# Altium footprint library National Semiconductor Amplifier.PcbLib: 108 footprints (part 1 of 7)
Each footprint in its own frame and in the unit in brackets; x right, y up, seen from the top. Pads: shape width x height; smd on the part's side, far side on the other; paste and mask are expansions set on the pad; w line width, h text height; cw(c..) or ccw(c..) is an arc to the next point about the centre after c.
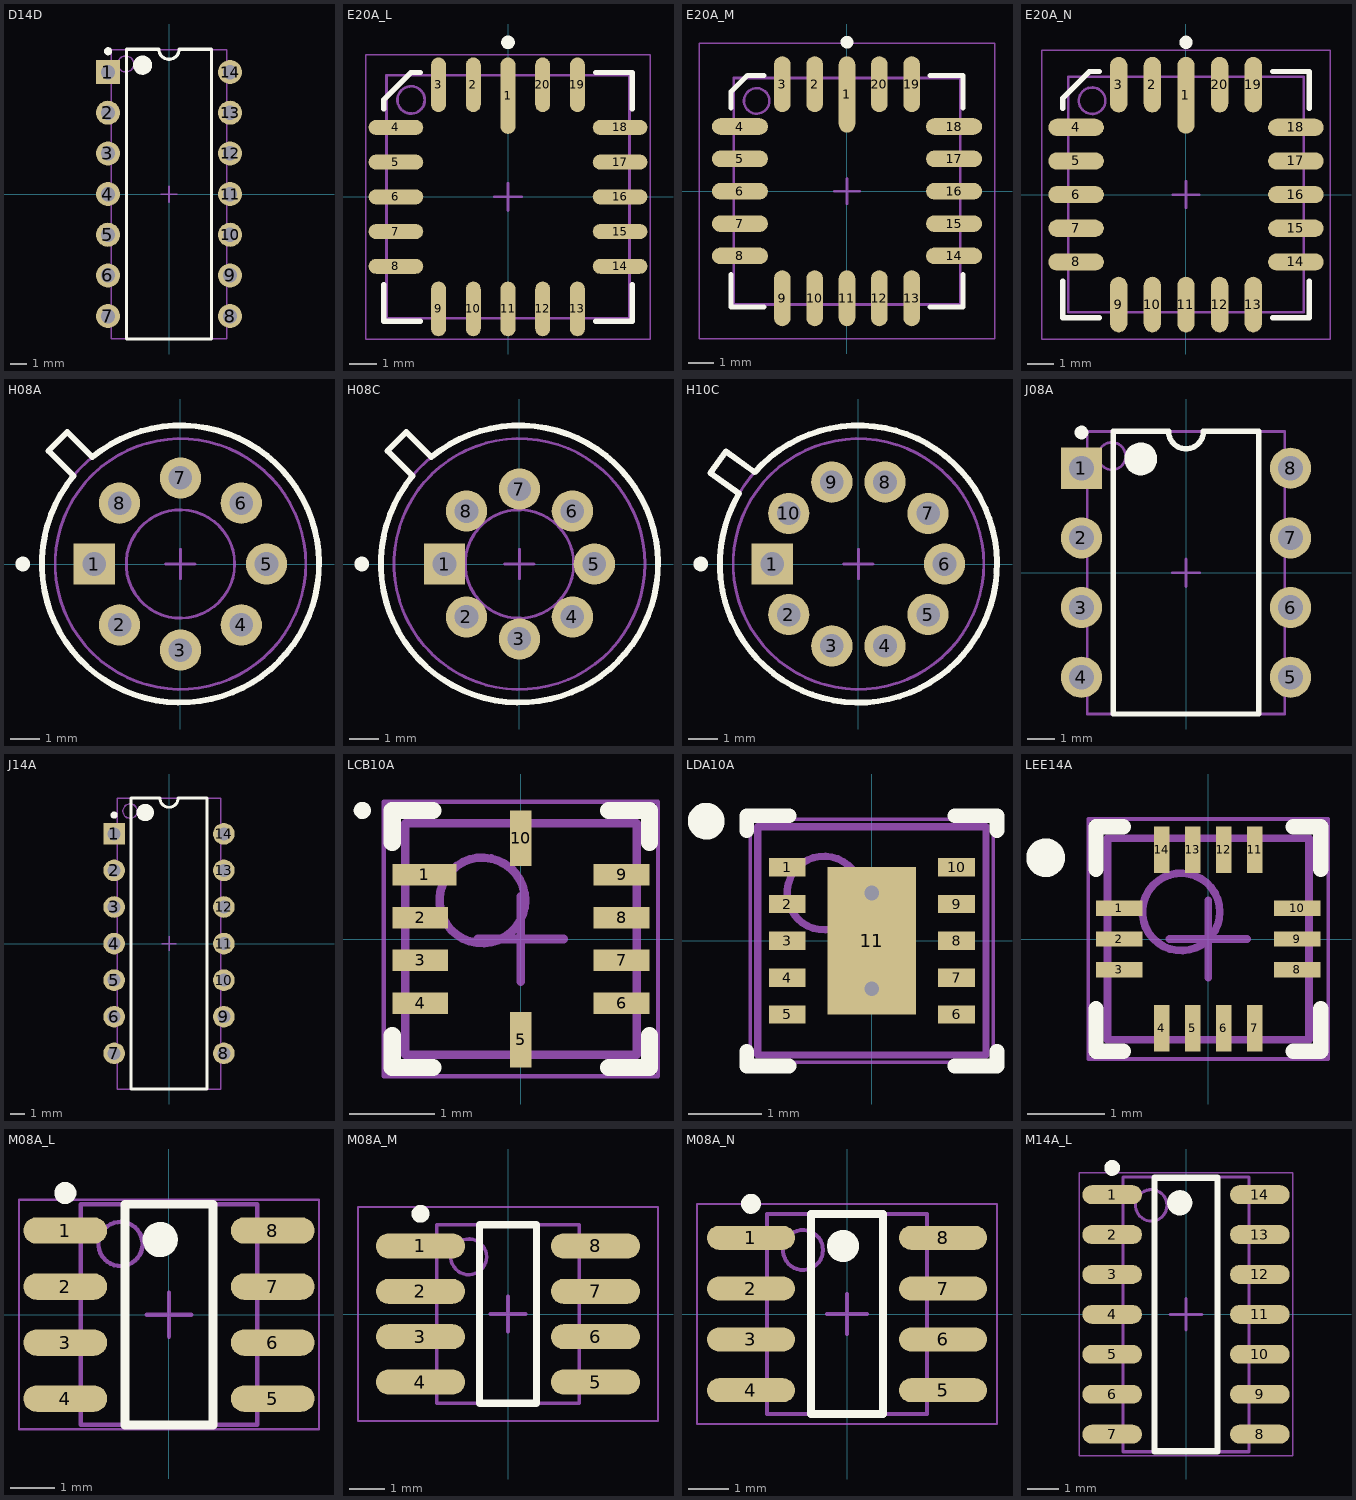
[diagram p0: the footprints below, top view; thin cyan lines are the x and y axes]

## D14D [mm] "DIP, 14-Pin, Row Spacing 7.62 mm, Pitch 2.54 mm"
height 4.58
pads (14):
  rect 1.5x1.5 hole 0.9: 1(-3.81,7.62)
  round 1.5 hole 0.9: 2(-3.81,5.08) 3(-3.81,2.54) 4(-3.81,0) 5(-3.81,-2.54) 6(-3.81,-5.08) 7(-3.81,-7.62) 8(3.81,-7.62) 9(3.81,-5.08) 10(3.81,-2.54) 11(3.81,0) 12(3.81,2.54) 13(3.81,5.08) 14(3.81,7.62)
Top Overlay:
  circle w0.6: c-1.65,8.05 r0.3
  circle w0.25: c-3.81,8.92 r0.125
  lines w0.2: -2.65,-9.05 2.65,-9.05 2.65,9.05 0.635,9.05 cw(c0,9.05) -0.635,9.05 -2.65,9.05 -2.65,-9.05
Mechanical 13:
  circle w0.1: c-2.7,8.125 r0.5
  lines w0.1: -3.6,-9.025 3.6,-9.025 3.6,9.025 -3.6,9.025 -3.6,-9.025
Mechanical 15:
  lines w0.1: -0.5,0 0.5,0 ; 0,-0.5 0,0.5
3D body: height 4.58, standoff 0, extent -3.6,-9.025 3.6,9.025

## E20A_L [mm] "Leadless Chip Carrier, 20-Leads, Body 8.9x8.9mm, Pitch 1.27mm, IPC High Density"
height 1.91
pads (20):
  oval 0.55x2.8 smd: 1(0,3.7)
  oval 0.55x2 smd: 2(-1.27,4.1) 3(-2.54,4.1) 9(-2.54,-4.1) 10(-1.27,-4.1) 11(0,-4.1) 12(1.27,-4.1) 13(2.54,-4.1) 19(2.54,4.1) 20(1.27,4.1)
  oval 2x0.55 smd: 4(-4.1,2.54) 5(-4.1,1.27) 6(-4.1,0) 7(-4.1,-1.27) 8(-4.1,-2.54) 14(4.1,-2.54) 15(4.1,-1.27) 16(4.1,0) 17(4.1,1.27) 18(4.1,2.54)
Top Overlay:
  circle w0.25: c0,5.65 r0.125
  lines w0.2: -4.55,-3.215 -4.55,-4.55 -3.215,-4.55 ; -4.55,3.215 -4.55,3.55 -3.55,4.55 -3.215,4.55 ; 3.215,-4.55 4.55,-4.55 4.55,-3.215 ; 3.215,4.55 4.55,4.55 4.55,3.215
Mechanical 13:
  circle w0.1: c-3.545,3.545 r0.5
  lines w0.1: -4.445,-4.445 4.445,-4.445 4.445,4.445 -4.445,4.445 -4.445,-4.445
Mechanical 15:
  lines w0.05: -5.2,-5.2 5.2,-5.2 5.2,5.2 -5.2,5.2 -5.2,-5.2
  lines w0.1: -0.5,0 0.5,0 ; 0,-0.5 0,0.5
3D body: height 1.91, standoff 0, extent -4.445,-4.445 4.445,4.445

## E20A_M [mm] "Leadless Chip Carrier, 20-Leads, Body 8.9x8.9mm, Pitch 1.27mm, IPC Low Density"
height 1.91
pads (20):
  oval 0.65x3 smd: 1(0,3.8)
  oval 0.65x2.2 smd: 2(-1.27,4.2) 3(-2.54,4.2) 9(-2.54,-4.2) 10(-1.27,-4.2) 11(0,-4.2) 12(1.27,-4.2) 13(2.54,-4.2) 19(2.54,4.2) 20(1.27,4.2)
  oval 2.2x0.65 smd: 4(-4.2,2.54) 5(-4.2,1.27) 6(-4.2,0) 7(-4.2,-1.27) 8(-4.2,-2.54) 14(4.2,-2.54) 15(4.2,-1.27) 16(4.2,0) 17(4.2,1.27) 18(4.2,2.54)
Top Overlay:
  circle w0.25: c0,5.85 r0.125
  lines w0.2: -4.55,-3.265 -4.55,-4.55 -3.265,-4.55 ; -4.55,3.265 -4.55,3.908 -3.908,4.55 -3.265,4.55 ; 3.265,-4.55 4.55,-4.55 4.55,-3.265 ; 3.265,4.55 4.55,4.55 4.55,3.265
Mechanical 13:
  circle w0.1: c-3.545,3.545 r0.5
  lines w0.1: -4.445,-4.445 -4.445,4.445 4.445,4.445 4.445,-4.445 -4.445,-4.445
Mechanical 15:
  lines w0.05: -5.8,-5.8 -5.8,5.8 5.8,5.8 5.8,-5.8 -5.8,-5.8
  lines w0.1: -0.5,0 0.5,0 ; 0,-0.5 0,0.5
3D body: height 1.91, standoff 0, extent -4.445,-4.445 4.445,4.445

## E20A_N [mm] "Leadless Chip Carrier, 20-Leads, Body 8.9x8.9mm, Pitch 1.27mm, IPC Medium Density"
height 1.91
pads (20):
  oval 0.65x2.9 smd: 1(0,3.75)
  oval 0.65x2.1 smd: 2(-1.27,4.15) 3(-2.54,4.15) 9(-2.54,-4.15) 10(-1.27,-4.15) 11(0,-4.15) 12(1.27,-4.15) 13(2.54,-4.15) 19(2.54,4.15) 20(1.27,4.15)
  oval 2.1x0.65 smd: 4(-4.15,2.54) 5(-4.15,1.27) 6(-4.15,0) 7(-4.15,-1.27) 8(-4.15,-2.54) 14(4.15,-2.54) 15(4.15,-1.27) 16(4.15,0) 17(4.15,1.27) 18(4.15,2.54)
Top Overlay:
  circle w0.25: c0,5.75 r0.125
  lines w0.2: -4.65,-3.265 -4.65,-4.65 -3.265,-4.65 ; -4.65,3.265 -4.65,3.65 -3.65,4.65 -3.265,4.65 ; 3.265,-4.65 4.65,-4.65 4.65,-3.265 ; 3.265,4.65 4.65,4.65 4.65,3.265
Mechanical 13:
  circle w0.1: c-3.545,3.545 r0.5
  lines w0.1: -4.445,-4.445 -4.445,4.445 4.445,4.445 4.445,-4.445 -4.445,-4.445
Mechanical 15:
  lines w0.05: -5.45,-5.45 -5.45,5.45 5.45,5.45 5.45,-5.45 -5.45,-5.45
  lines w0.1: -0.5,0 0.5,0 ; 0,-0.5 0,0.5
3D body: height 1.91, standoff 0, extent -4.445,-4.445 4.445,4.445

## H08A [mm] "Can; 8 Leads; Pin Circle Dia. 5.84 mm; Lead Dia. 0.48 mm (max)"
height 5.08
pads (8):
  rect 1.4x1.4 hole 0.8: 1(-2.92,0)
  round 1.4 hole 0.8: 2(-2.065,-2.065) 3(0,-2.92) 4(2.065,-2.065) 5(2.92,0) 6(2.065,2.065) 7(0,2.92) 8(-2.065,2.065)
Top Overlay:
  circle w0.25: c-5.35,0 r0.125
  lines w0.2: -4.475,3.838 -3.838,4.475 -2.99,3.626 cw(c0,0) -3.626,2.99 -4.475,3.838
Mechanical 13:
  circle w0.1: c0,0 r4.7
  circle w0.1: c0,0 r4.25
  circle w0.1: c0,0 r1.84
Mechanical 15:
  lines w0.1: -0.5,0 0.5,0 -0.5,0 ; 0,-0.5 0,0.5 0,-0.5
3D body: height 5.08, standoff 1.4, extent -4.249,-4.249 4.249,4.249
3D body: height 1.4, standoff 0.38, extent -4.699,-4.699 4.699,4.699
3D body: height 0.38, standoff 0, extent -1.839,-1.839 1.839,1.839

## H08C [mm] "Can; 8 Leads; Pin Circle Dia. 5.08 mm; Lead Dia. 0.48 mm (max)"
height 5.56
pads (8):
  rect 1.4x1.4 hole 0.8: 1(-2.54,0)
  round 1.4 hole 0.8: 2(-1.796,-1.796) 3(0,-2.54) 4(1.796,-1.796) 5(2.54,0) 6(1.796,1.796) 7(0,2.54) 8(-1.796,1.796)
Top Overlay:
  circle w0.25: c-5.35,0 r0.125
  lines w0.2: -4.475,3.838 -3.838,4.475 -2.99,3.626 cw(c0,0) -3.626,2.99 -4.475,3.838
Mechanical 13:
  circle w0.1: c0,0 r4.7
  circle w0.1: c0,0 r4.255
  circle w0.1: c0,0 r1.84
Mechanical 15:
  lines w0.1: -0.5,0 0.5,0 ; 0,-0.5 0,0.5
3D body: height 0.38, standoff 0, extent -1.839,-1.839 1.839,1.839
3D body: height 1.91, standoff 0.38, extent -4.699,-4.699 4.699,4.699
3D body: height 5.56, standoff 1.91, extent -4.254,-4.254 4.254,4.254

## H10C [mm] "Can; 10 Leads; Pin Circle Dia. 5.84 mm; Lead Dia. 0.48 mm (max)"
height 4.7
pads (10):
  rect 1.4x1.4 hole 0.8: 1(-2.92,0)
  round 1.4 hole 0.8: 2(-2.362,-1.716) 3(-0.902,-2.777) 4(0.902,-2.777) 5(2.362,-1.716) 6(2.92,0) 7(2.362,1.716) 8(0.902,2.777) 9(-0.902,2.777) 10(-2.362,1.716)
Top Overlay:
  circle w0.25: c-5.35,0 r0.125
  lines w0.2: -4.049,2.386 -5.02,3.091 -4.491,3.819 -3.52,3.114 cw(c0,0) -4.049,2.386
Mechanical 13:
  circle w0.1: c0,0 r4.7
  circle w0.1: c0,0 r4.25
Mechanical 15:
  lines w0.1: -0.5,0 0.5,0 ; 0,-0.5 0,0.5
3D body: height 4.7, standoff 0.89, extent -4.249,-4.249 4.25,4.249
3D body: height 0.89, standoff 0, extent -4.699,-4.699 4.699,4.699

## J08A [mm] "DIP, 8-Pin, Row Spacing 7.62 mm, Pitch 2.54 mm"
height 5.08
pads (8):
  rect 1.5x1.5 hole 0.9: 1(-3.81,3.81)
  round 1.5 hole 0.9: 2(-3.81,1.27) 3(-3.81,-1.27) 4(-3.81,-3.81) 5(3.81,-3.81) 6(3.81,-1.27) 7(3.81,1.27) 8(3.81,3.81)
Top Overlay:
  circle w0.6: c-1.65,4.15 r0.3
  circle w0.25: c-3.81,5.11 r0.125
  lines w0.2: -2.65,-5.15 2.65,-5.15 2.65,5.15 0.635,5.15 cw(c0,5.15) -0.635,5.15 -2.65,5.15 -2.65,-5.15
Mechanical 13:
  circle w0.1: c-2.7,4.25 r0.5
  lines w0.1: -3.6,-5.15 3.6,-5.15 3.6,5.15 -3.6,5.15 -3.6,-5.15
Mechanical 15:
  lines w0.1: -0.5,0 0.5,0 ; 0,-0.5 0,0.5
3D body: height 5.08, standoff 0, extent -3.6,-5.15 3.6,5.15

## J14A [mm] "DIP, 14-Pin, Row Spacing 7.62 mm, Pitch 2.54 mm"
height 5.08
pads (14):
  rect 1.5x1.5 hole 0.9: 1(-3.81,7.62)
  round 1.5 hole 0.9: 2(-3.81,5.08) 3(-3.81,2.54) 4(-3.81,0) 5(-3.81,-2.54) 6(-3.81,-5.08) 7(-3.81,-7.62) 8(3.81,-7.62) 9(3.81,-5.08) 10(3.81,-2.54) 11(3.81,0) 12(3.81,2.54) 13(3.81,5.08) 14(3.81,7.62)
Top Overlay:
  circle w0.6: c-1.65,9.1 r0.3
  circle w0.25: c-3.81,8.92 r0.125
  lines w0.2: -2.65,-10.1 2.65,-10.1 2.65,10.1 0.635,10.1 cw(c0,10.1) -0.635,10.1 -2.65,10.1 -2.65,-10.1
Mechanical 13:
  circle w0.1: c-2.7,9.2 r0.5
  lines w0.1: -3.6,-10.1 3.6,-10.1 3.6,10.1 -3.6,10.1 -3.6,-10.1
Mechanical 15:
  lines w0.1: -0.5,0 0.5,0 ; 0,-0.5 0,0.5
3D body: height 5.08, standoff 0, extent -3.6,-10.1 3.6,10.1

## LCB10A [mm] "SON, 10-Leads, Body 2.6x2.6mm, Pitch 0.5mm, NSC Recommended"
height 0.6
pads (10):
  rect 0.75x0.25 smd paste-0.125 mask+0.051: 1(-1.125,0.75)
  rect 0.65x0.25 smd paste-0.125 mask+0.051: 2(-1.175,0.25) 3(-1.175,-0.25) 4(-1.175,-0.75) 6(1.175,-0.75) 7(1.175,-0.25) 8(1.175,0.25) 9(1.175,0.75)
  rect 0.25x0.65 smd paste-0.125 mask+0.051: 5(0,-1.175) 10(0,1.175)
Top Overlay:
  circle w0.1: c-1.85,1.5 r0.05
  lines w0.2: -1.5,-1.125 -1.5,-1.5 -1.025,-1.5 ; -1.5,1.125 -1.5,1.5 -1.025,1.5 ; 1.025,-1.5 1.5,-1.5 1.5,-1.125 ; 1.025,1.5 1.5,1.5 1.5,1.125
Top Paste:
  rectangle: -0.125,0.95 0.125,1.7
  region: 0.125,-0.95 -0.125,-0.95 -0.125,-1.7 0.125,-1.7
  region: 1.7,0.625 1.7,0.875 0.95,0.875 0.95,0.625
  region: 1.7,0.125 1.7,0.375 0.95,0.375 0.95,0.125
  region: 1.7,-0.375 1.7,-0.125 0.95,-0.125 0.95,-0.375
  region: 1.7,-0.875 1.7,-0.625 0.95,-0.625 0.95,-0.875
  region: -0.95,-0.875 -0.95,-0.625 -1.7,-0.625 -1.7,-0.875
  region: -0.95,-0.375 -0.95,-0.125 -1.7,-0.125 -1.7,-0.375
  region: -0.95,0.125 -0.95,0.375 -1.7,0.375 -1.7,0.125
  region: -0.85,0.625 -0.85,0.875 -1.7,0.875 -1.7,0.625
Mechanical 13:
  circle w0.1: c-0.45,0.45 r0.5
  lines w0.1: -1.35,-1.35 -1.35,1.35 1.35,1.35 1.35,-1.35 -1.35,-1.35
Mechanical 15:
  lines w0.05: -1.6,-1.6 1.6,-1.6 1.6,1.6 -1.6,1.6 -1.6,-1.6
  lines w0.1: -0.5,0 0.5,0 ; 0,-0.5 0,0.5
3D body: height 0.6, standoff 0, extent -1.349,-1.349 1.349,1.349

## LDA10A [mm] "PSON, 10-Leads, Body 3x3mm, Pitch 0.5mm, NSC Recommended"
height 0.8
pads (11):
  rect 0.5x0.25 smd paste-0.125 mask+0.051: 1(-1.15,1) 2(-1.15,0.5) 3(-1.15,0) 4(-1.15,-0.5) 5(-1.15,-1) 6(1.15,-1) 7(1.15,-0.5) 8(1.15,0) 9(1.15,0.5) 10(1.15,1)
  rect 1.2x2 smd paste-0.6 mask+0.051: 11(0,0)
via 0,0.65 diameter 0.5 hole 0.2
via 0,-0.65 diameter 0.5 hole 0.2
Top Overlay:
  circle w0.25: c-2.25,1.625 r0.125
  lines w0.2: -1.7,-1.5 -1.7,-1.7 -1.125,-1.7 ; -1.7,1.5 -1.7,1.7 -1.125,1.7 ; 1.125,-1.7 1.7,-1.7 1.7,-1.5 ; 1.125,1.7 1.7,1.7 1.7,1.5
Top Paste:
  rectangle: -0.57,-0.95 0.57,0.95
  rectangle: -1.5,0.875 -1,1.125
  rectangle: -1.5,0.375 -1,0.625
  rectangle: -1.5,-0.125 -1,0.125
  rectangle: -1.5,-0.625 -1,-0.375
  rectangle: -1.5,-1.125 -1,-0.875
  region: 1.5,1.125 1,1.125 1,0.875 1.5,0.875
  region: 1.5,0.625 1,0.625 1,0.375 1.5,0.375
  region: 1.5,0.125 1,0.125 1,-0.125 1.5,-0.125
  region: 1.5,-0.375 1,-0.375 1,-0.625 1.5,-0.625
  region: 1.5,-0.875 1,-0.875 1,-1.125 1.5,-1.125
Mechanical 13:
  circle w0.1: c-0.65,0.65 r0.5
  lines w0.1: -1.55,-1.55 -1.55,1.55 1.55,1.55 1.55,-1.55 -1.55,-1.55
Mechanical 15:
  lines w0.05: -1.65,-1.65 -1.65,1.65 1.65,1.65 1.65,-1.65 -1.65,-1.65
  lines w0.1: -0.5,0 0.5,0 ; 0,-0.5 0,0.5
3D body: height 0.8, standoff 0, extent -1.55,-1.55 1.55,1.55

## LEE14A [mm] "QFN, 14-Leads, Body 2.5x2.5 mm, Pitch 0.4mm, NSC Recommended"
height 0.6
pads (14):
  rect 0.6x0.2 smd paste-0.1 mask+0.051: 1(-1.15,0.4) 2(-1.15,0) 3(-1.15,-0.4) 8(1.15,-0.4) 9(1.15,0) 10(1.15,0.4)
  rect 0.2x0.6 smd paste-0.1 mask+0.051: 4(-0.6,-1.15) 5(-0.2,-1.15) 6(0.2,-1.15) 7(0.6,-1.15) 11(0.6,1.15) 12(0.2,1.15) 13(-0.2,1.15) 14(-0.6,1.15)
Top Overlay:
  circle w0.25: c-2.1,1.05 r0.125
  lines w0.2: -1.45,-0.9 -1.45,-1.45 -1.1,-1.45 ; -1.45,0.9 -1.45,1.45 -1.1,1.45 ; 1.1,-1.45 1.45,-1.45 1.45,-0.9 ; 1.1,1.45 1.45,1.45 1.45,0.9
Top Paste:
  region: 1.65,-0.3 0.95,-0.3 0.95,-0.5 1.65,-0.5
  region: 1.65,0.1 0.95,0.1 0.95,-0.1 1.65,-0.1
  region: 1.65,0.5 0.95,0.5 0.95,0.3 1.65,0.3
  region: 0.5,1.65 0.5,0.95 0.7,0.95 0.7,1.65
  region: 0.1,1.65 0.1,0.95 0.3,0.95 0.3,1.65
  region: -0.3,1.65 -0.3,0.95 -0.1,0.95 -0.1,1.65
  region: -0.7,1.65 -0.7,0.95 -0.5,0.95 -0.5,1.65
  region: 0.7,-1.65 0.7,-0.95 0.5,-0.95 0.5,-1.65
  region: 0.3,-1.65 0.3,-0.95 0.1,-0.95 0.1,-1.65
  region: -0.1,-1.65 -0.1,-0.95 -0.3,-0.95 -0.3,-1.65
  region: -0.5,-1.65 -0.5,-0.95 -0.7,-0.95 -0.7,-1.65
  rectangle: -1.65,-0.5 -0.95,-0.3
  rectangle: -1.65,-0.1 -0.95,0.1
  rectangle: -1.65,0.3 -0.95,0.5
Mechanical 13:
  circle w0.1: c-0.35,0.35 r0.5
  lines w0.1: -1.3,-1.3 -1.3,1.3 1.3,1.3 1.3,-1.3 -1.3,-1.3
Mechanical 15:
  lines w0.05: -1.55,-1.55 1.55,-1.55 1.55,1.55 -1.55,1.55 -1.55,-1.55
  lines w0.1: -0.5,0 0.5,0 ; 0,-0.5 0,0.5
3D body: height 0.6, standoff 0, extent -1.3,-1.3 1.3,1.3

## M08A_L [mm] "SOIC, 8-Leads, Body 4.9x3.9mm, Pitch 1.27mm, IPC High Density"
height 1.75
pads (8):
  oval 1.9x0.6 smd: 1(-2.35,1.905) 2(-2.35,0.635) 3(-2.35,-0.635) 4(-2.35,-1.905) 5(2.35,-1.905) 6(2.35,-0.635) 7(2.35,0.635) 8(2.35,1.905)
Top Overlay:
  circle w0.25: c-2.35,2.755 r0.125
  circle w0.4: c-0.2,1.7 r0.2
  lines w0.2: -1,-2.5 -1,2.5 1,2.5 1,-2.5 -1,-2.5
Mechanical 13:
  circle w0.1: c-1.1,1.6 r0.5
  lines w0.1: -2,-2.5 -2,2.5 2,2.5 2,-2.5 -2,-2.5
Mechanical 15:
  lines w0.05: -3.4,-2.6 -3.4,2.6 3.4,2.6 3.4,-2.6 -3.4,-2.6
  lines w0.1: -0.5,0 0.5,0 ; 0,-0.5 0,0.5
3D body: height 1.75, standoff 0.1, extent -2,-2.5 2,2.5

## M08A_M [mm] "SOIC, 8-Leads, Body 4.9x3.9mm, Pitch 1.27mm, IPC Low Density"
height 1.75
pads (8):
  oval 2.5x0.7 smd: 1(-2.45,1.905) 2(-2.45,0.635) 3(-2.45,-0.635) 4(-2.45,-1.905) 5(2.45,-1.905) 6(2.45,-0.635) 7(2.45,0.635) 8(2.45,1.905)
Top Overlay:
  circle w0.25: c-2.45,2.805 r0.125
  lines w0.2: -0.8,-2.5 0.8,-2.5 0.8,2.5 -0.8,2.5 -0.8,-2.5
Mechanical 13:
  circle w0.1: c-1.1,1.6 r0.5
  lines w0.1: -2,-2.5 2,-2.5 2,2.5 -2,2.5 -2,-2.5
Mechanical 15:
  lines w0.05: -4.2,-3 4.2,-3 4.2,3 -4.2,3 -4.2,-3
  lines w0.1: -0.5,0 0.5,0 ; 0,-0.5 0,0.5
3D body: height 1.75, standoff 0.1, extent -2,-2.5 2,2.5

## M08A_N [mm] "SOIC, 8-Leads, Body 4.9x3.9mm, Pitch 1.27mm, IPC Medium Density"
height 1.75
pads (8):
  oval 2.2x0.6 smd: 1(-2.4,1.905) 2(-2.4,0.635) 3(-2.4,-0.635) 4(-2.4,-1.905) 5(2.4,-1.905) 6(2.4,-0.635) 7(2.4,0.635) 8(2.4,1.905)
Top Overlay:
  circle w0.25: c-2.4,2.755 r0.125
  circle w0.4: c-0.1,1.7 r0.2
  lines w0.2: -0.9,-2.5 -0.9,2.5 0.9,2.5 0.9,-2.5 -0.9,-2.5
Mechanical 13:
  circle w0.1: c-1.1,1.6 r0.5
  lines w0.1: -2,-2.5 -2,2.5 2,2.5 2,-2.5 -2,-2.5
Mechanical 15:
  lines w0.05: -3.75,-2.75 -3.75,2.75 3.75,2.75 3.75,-2.75 -3.75,-2.75
  lines w0.1: -0.5,0 0.5,0 ; 0,-0.5 0,0.5
3D body: height 1.75, standoff 0.1, extent -2,-2.5 2,2.5

## M14A_L [mm] "SOIC, 14-Leads, Body 8.6x3.9mm, Pitch 1.27mm, IPC High Density"
height 1.75
pads (14):
  oval 1.9x0.6 smd: 1(-2.35,3.81) 2(-2.35,2.54) 3(-2.35,1.27) 4(-2.35,0) 5(-2.35,-1.27) 6(-2.35,-2.54) 7(-2.35,-3.81) 8(2.35,-3.81) 9(2.35,-2.54) 10(2.35,-1.27) 11(2.35,0) 12(2.35,1.27) 13(2.35,2.54) 14(2.35,3.81)
Top Overlay:
  circle w0.4: c-0.2,3.55 r0.2
  circle w0.25: c-2.35,4.66 r0.125
  lines w0.2: -1,-4.35 1,-4.35 1,4.35 -1,4.35 -1,-4.35
Mechanical 13:
  circle w0.1: c-1.105,3.47 r0.5
  lines w0.1: -2.005,-4.37 2.005,-4.37 2.005,4.37 -2.005,4.37 -2.005,-4.37
Mechanical 15:
  lines w0.05: -3.4,-4.5 3.4,-4.5 3.4,4.5 -3.4,4.5 -3.4,-4.5
  lines w0.1: -0.5,0 0.5,0 ; 0,-0.5 0,0.5
3D body: height 1.75, standoff 0.1, extent -2.005,-4.37 2.005,4.37